# Altium footprint library PcbLib2.PcbLib: 7 footprints
Each footprint in its own frame and in the unit in brackets; x right, y up, seen from the top. Pads: shape width x height; smd on the part's side, far side on the other; paste and mask are expansions set on the pad; w line width, h text height; cw(c..) or ccw(c..) is an arc to the next point about the centre after c.
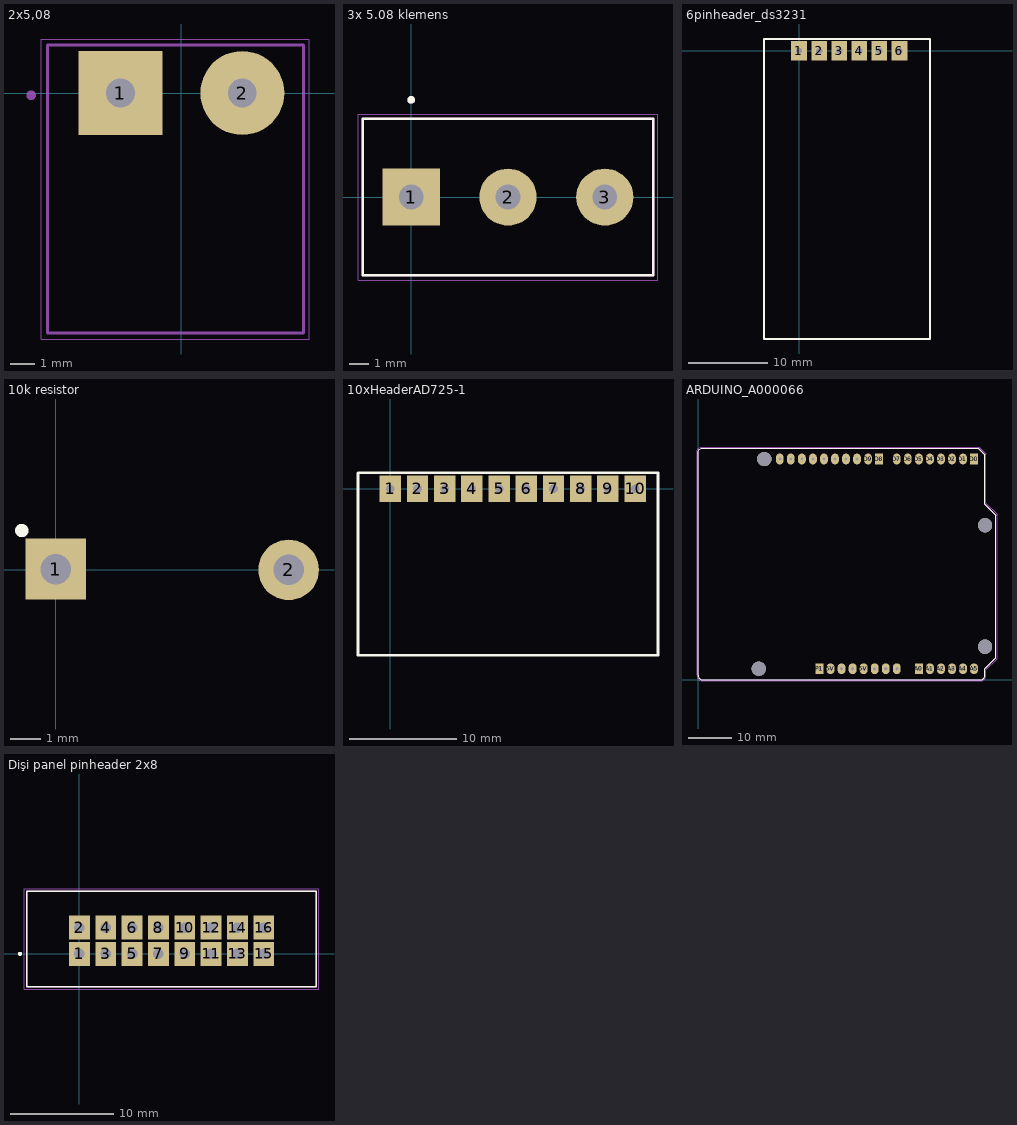
[diagram p0: the footprints below, top view; thin cyan lines are the x and y axes]

## 2x5,08 [mm]
pads (2):
  rect 3.5x3.5 hole 1.2: 1(-2.54,0)
  round 3.5 hole 1.2: 2(2.54,0)
Mechanical 13:
  circle w0.2: c-6.262,-0.094 r0.1
  lines w0.127: -5.58,-10 5.08,-10 5.08,2 -5.58,2 -5.58,-10
Mechanical 15:
  lines w0.05: -5.83,-10.25 5.33,-10.25 5.33,2.25 -5.83,2.25 -5.83,-10.25
3D body "70054422.stp": height 16, standoff -2.5, extent -5.619,-4.877 5.111,4.623

## 3x 5.08 klemens [mm]
pads (3):
  rect 3x3 hole 1.3: 1(0,0)
  round 3 hole 1.3: 2(5.08,0) 3(10.16,0)
Top Overlay:
  circle w0.2: c0,5.1 r0.1
  lines w0.127: -2.54,-4.1 12.7,-4.1 12.7,4.1 -2.54,4.1 -2.54,-4.1
Mechanical 13:
  circle w0.2: c0,5.1 r0.1
  lines w0.127: -2.54,-4.1 12.7,-4.1 12.7,4.1 -2.54,4.1 -2.54,-4.1
Mechanical 15:
  lines w0.05: -2.79,-4.35 -2.79,4.35 12.95,4.35 12.95,-4.35 -2.79,-4.35
3D body "TB006-508-03BE--3DModel-STEP-56544.STEP": height 10, standoff -3.8, extent -3.04,-4.1 12.7,4.1

## 6pinheader_ds3231 [mm]
pads (6):
  rect 2x2.5 hole 0.8 square: 1(-0.025,0) 2(2.54,0) 3(5.08,0) 4(7.62,0) 5(10.16,0) 6(12.7,0)
Top Overlay:
  lines w0.254: -4.449,-36.51 16.551,-36.51 ; -4.43,-36.408 -4.43,1.473 -4.402,1.5 0.076,1.5 16.576,1.5 ; 16.576,-36.51 16.576,1.49
3D body "User Library-Header_Male_6Pin.STEP": height 8.54, standoff -3, extent -1.27,-1.245 13.97,1.245

## 10k resistor [mm]
pads (2):
  rect 2x2 hole 1 mask+0.05: 1(0,0.025)
  round 2 hole 1 mask+0.05: 2(7.671,0)
Top Overlay:
  circle w0.254: c-1.118,1.295 r0.092
3D body "CircuitWorks-RESISTOR 7_62MM DIP.STEP": height 2, standoff -2, extent -0.189,-1.051 7.911,0.949

## 10xHeaderAD725-1 [mm]
pads (10):
  rect 2x2.5 hole 0.8 square: 1(0,0) 2(2.54,0) 3(5.08,0) 4(7.62,0) 5(10.16,0) 6(12.7,0) 7(15.24,0) 8(17.78,0) 9(20.32,0) 10(22.86,0)
Top Overlay:
  lines w0.254: -3.016,-15.525 -3.016,1.475 ; -3.006,-15.545 24.994,-15.545 ; -2.991,1.5 0,1.5 25,1.5 25,-15.5
3D body "User Library-Header_Male_8Pin.STEP": height 8.54, standoff -3, extent -1.27,-1.245 19.05,1.245

## ARDUINO_A000066 [mm]
pads (36):
  oval 1.8x2.5 hole 0.7 square: 3V3(35.56,2.54) 5V(30.48,2.54) 5V(38.1,2.54) A1(53.34,2.54) A2(55.88,2.54) A3(58.42,2.54) A4(60.96,2.54) A5(63.5,2.54) AREF(23.876,50.8) D1(60.96,50.8) D2(58.42,50.8) D3(55.88,50.8) D4(53.34,50.8) D5(50.8,50.8) D6(48.26,50.8) D7(45.72,50.8) D9(39.116,50.8) D10(36.576,50.8) D11(34.036,50.8) D12(31.496,50.8) D13(28.956,50.8) GND_1(43.18,2.54) GND_2(40.64,2.54) GND_3(26.416,50.8) RST(33.02,2.54) SCL(18.796,50.8) SDA(21.336,50.8) VIN(45.72,2.54)
  rect 1.8x2.5 hole 0.7 square: A0(50.8,2.54) D0(63.5,50.8) D8(41.656,50.8) P1(27.94,2.54)
  round 3.3 hole 3.3 unplated: ""(13.97,2.54) ""(15.24,50.8) ""(66.04,7.62) ""(66.04,35.56)
Top Overlay:
  lines w0.127: 0,0.993 0,52.283 0.042,52.558 0.127,52.791 0.296,53.002 0.508,53.151 0.741,53.256 0.994,53.299 64.472,53.299 65.995,51.775 65.995,40.349 68.535,37.81 68.535,5.077 65.995,2.538 65.995,0.993 65.953,0.739 65.869,0.506 65.699,0.295 65.488,0.126 65.255,0.041 65.001,-0.001 0.994,-0.001 0.741,0.041 0.508,0.126 0.296,0.295 0.127,0.506 0.042,0.739 0,0.993
Mechanical 13:
  lines w0.127: 0,0.993 0,52.283 0.042,52.558 0.127,52.791 0.296,53.002 0.508,53.151 0.741,53.256 0.994,53.299 64.472,53.299 65.995,51.775 65.995,40.349 68.535,37.81 68.535,5.077 65.995,2.538 65.995,0.993 65.953,0.739 65.869,0.506 65.699,0.295 65.488,0.126 65.255,0.041 65.001,-0.001 0.994,-0.001 0.741,0.041 0.508,0.126 0.296,0.295 0.127,0.506 0.042,0.739 0,0.993
Mechanical 15:
  lines w0.05: -0.25,0.993 -0.25,1 -0.25,52.533 -0.208,52.808 -0.123,53.041 0.046,53.252 0.258,53.401 0.491,53.506 0.744,53.549 64.722,53.549 66.246,52.025 66.246,40.599 68.785,38.06 68.785,4.827 66.246,2.288 66.246,0.993 ; -0.25,1.003 ccw(c0.932,0.921) 0.747,-0.249 ; 0.744,-0.251 65.001,-0.251 ; 64.989,-0.25 ccw(c64.943,1.057) 66.249,0.989
3D body "A000066.STEP": height 11.87, standoff -2.99, extent -6.49,0 68.58,53.34

## Dişi panel pinheader 2x8 [mm]
pads (16):
  rect 2x2.3 hole 1.02 square: 1(0,0) 2(0,2.54) 3(2.54,0) 4(2.54,2.54) 5(5.08,0) 6(5.08,2.54) 7(7.62,0) 8(7.62,2.54) 9(10.16,0) 10(10.16,2.54) 11(12.7,0) 12(12.7,2.54) 13(15.24,0) 14(15.24,2.54) 15(17.78,0) 16(17.78,2.54)
Top Overlay:
  circle w0.2: c-5.73,0 r0.1
  lines w0.127: -5.08,-3.175 -5.08,6.045 22.86,6.045 22.86,-3.175 -5.08,-3.175
Mechanical 13:
  circle w0.2: c-5.73,0 r0.1
  lines w0.127: -5.08,-3.175 -5.08,6.045 ; -5.08,-3.175 22.86,-3.175 ; -5.08,-3.175 -5.08,6.045 ; -5.08,6.045 22.86,6.045 ; -5.08,6.045 22.86,6.045 ; 22.86,-3.175 22.86,6.045 ; 22.86,-3.175 22.86,6.045
Mechanical 15:
  lines w0.05: -5.33,-3.425 -5.33,6.295 23.11,6.295 23.11,-3.425 -5.33,-3.425
3D body "1761681-6.stp": height 9.14, standoff -2.97, extent -5.08,-3.162 22.86,6.058